# Altium footprint library SIP_Test.PcbLib: 5 footprints
Each footprint in its own frame and in the unit in brackets; x right, y up, seen from the top. Pads: shape width x height; smd on the part's side, far side on the other; paste and mask are expansions set on the pad; w line width, h text height; cw(c..) or ccw(c..) is an arc to the next point about the centre after c.
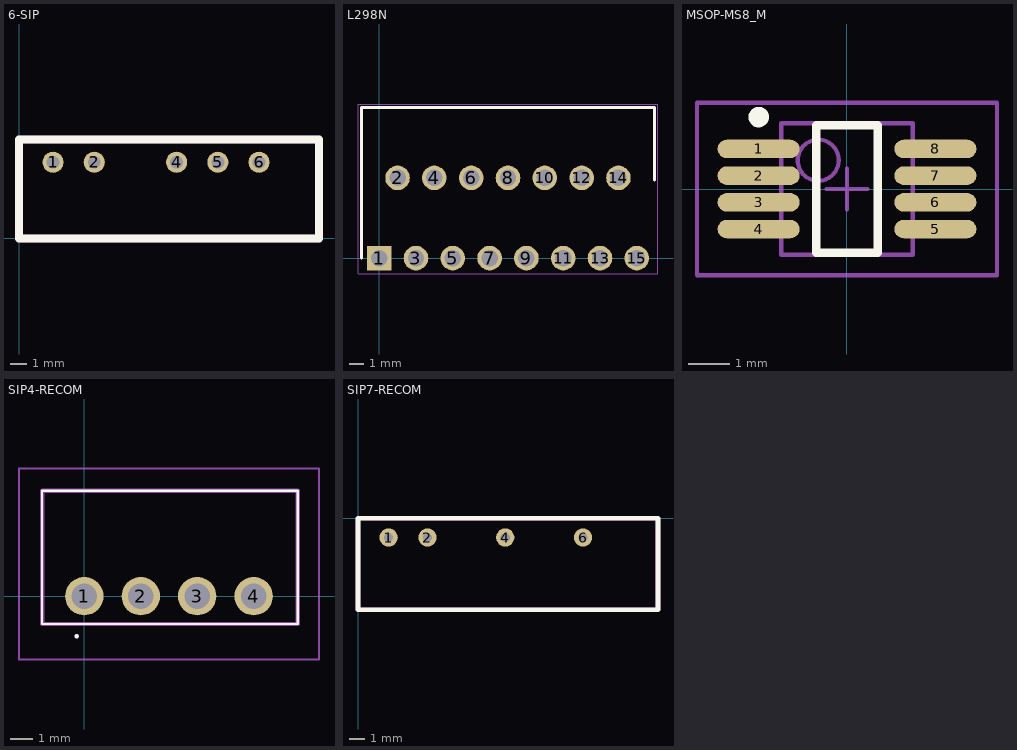
[diagram p0: the footprints below, top view; thin cyan lines are the x and y axes]

## 6-SIP [mm]
pads (5):
  round 1.3 hole 0.8: 1(2.1,4.7) 2(4.64,4.7) 4(9.72,4.7) 5(12.26,4.7) 6(14.8,4.7)
Top Overlay:
  lines w0.5: 0,0 0,6.1 18.5,6.1 18.5,0 0,0
Mechanical 29:
  lines w0.5: 0,0 0,6.1 18.5,6.1 18.5,0 0,0
  text "'.Designator'" at 2.857,2.126 h2.54
3D body: height 10.2, standoff 0, extent 0.1,0 18.4,6.1

## L298N [mm]
pads (15):
  rect 1.695x1.695 hole 1.13: 1(0,0)
  round 1.695 hole 1.13: 2(1.27,5.53) 3(2.54,0) 4(3.81,5.53) 5(5.08,0) 6(6.35,5.53) 7(7.62,0) 8(8.89,5.53) 9(10.16,0) 10(11.43,5.53) 11(12.7,0) 12(13.97,5.53) 13(15.24,0) 14(16.51,5.53) 15(17.78,0)
Top Overlay:
  lines w0.2: -1.21,0 -1.21,10.38 18.99,10.38 18.99,5.38
Mechanical 15:
  lines w0.05: -1.46,-1.098 -1.46,10.63 19.24,10.63 19.24,-1.098 -1.46,-1.098
Mechanical 29:
  lines w0.2: -1.21,0 -1.21,10.38 18.99,10.38 18.99,5.38
  text "'.Designator'" at 3.505,2.675 h1.02
3D body "L298N.stp": height 20.65, standoff -6.3, extent -1.21,-0.26 18.99,10.38

## MSOP-MS8_M [mm] "TSOP, 8-Leads, Body 3x3mm, Pitch 0.65mm, IPC Low Density"
height 1.1
pads (8):
  oval 2x0.45 smd: 1(-2.15,0.975) 2(-2.15,0.325) 3(-2.15,-0.325) 4(-2.15,-0.975) 5(2.15,-0.975) 6(2.15,-0.325) 7(2.15,0.325) 8(2.15,0.975)
Top Overlay:
  circle w0.25: c-2.15,1.75 r0.125
  lines w0.2: -0.75,-1.55 -0.75,1.55 0.75,1.55 0.75,-1.55 -0.75,-1.55
Mechanical 15:
  lines w0.1: -0.5,0 0.5,0 ; 0,-0.5 0,0.5 ; -3.65,-2.1 -3.65,2.1 3.65,2.1 3.65,-2.1 -3.65,-2.1
Mechanical 29:
  circle w0.1: c-0.7,0.7 r0.5
  lines w0.1: -1.6,-1.6 -1.6,1.6 1.6,1.6 1.6,-1.6 -1.6,-1.6
  text "'.Designator'" at -1.473,-0.644 h0.51
3D body "MCP73844-840I_MS.stp": height 1.11, standoff 0.01, extent -2.45,-1.5 2.45,1.5

## SIP4-RECOM [mm]
pads (4):
  round 1.725 hole 1.15: 1(0,0) 2(2.54,0) 3(5.08,0) 4(7.62,0)
Top Overlay:
  lines w0.1: -1.9,-1.25 -1.9,4.75 9.6,4.75 9.6,-1.25 -1.9,-1.25 ; -0.4,-1.8 cw(c-0.35,-1.8) -0.3,-1.8 cw(c-0.35,-1.8) -0.4,-1.8
Mechanical 13:
  lines w0.2: -1.9,-1.25 -1.9,4.75 9.6,4.75 9.6,-1.25 -1.9,-1.25
Mechanical 15:
  lines w0.1: -2.94,-2.85 -2.94,5.75 10.56,5.75 10.56,-2.85 -2.94,-2.85
3D body "RFM-0505S--3DModel-STEP-1.STEP": height 10.01, standoff -4.09, extent -1.94,-1.3 9.56,4.7

## SIP7-RECOM [mm]
pads (4):
  round 1.2 hole 0.6: 1(2,-1.27) 2(4.54,-1.27) 4(9.62,-1.27) 6(14.7,-1.27)
Top Overlay:
  lines w0.3: 0,-6 0,0 19.6,0 19.6,-6 0,-6
Mechanical 29:
  lines w0.3: 0,-6 0,0 19.6,0 19.6,-6 0,-6
  text "'.Designator'" at 5.1,-3.524 h2
3D body "RFB-0505S.STEP": height 10.3, standoff -4, extent 0,-6 19.6,0